# EAGLE library part CONN_12X2 (library Me433lib)
Multi connection point. Often used as Generic Header-pin footprint for 0.1 inch spaced/style header connections On any of the 0.1 inch spaced packages, you can populate with these: Break Away Headers - Straight <https://www.sparkfun.com/products/116> (PRT-00116) Break Away Male Headers - Right Angle <https://www.sparkfun.com/products/553> (PRT-00553) Female Headers <https://www.sparkfun.com/products/115> (PRT-00115) Break Away Headers - Machine Pin <https://www.sparkfun.com/products/117> (PRT-00117) Break Away Female Headers - Swiss Machine Pin <https://www.sparkfun.com/products/743> (PRT-00743)
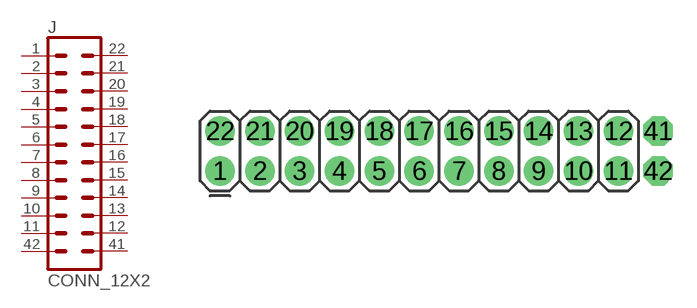
[diagram p5: symbol with the pads of 2X12; footprint 2X12]

Designator prefix J

## CONN_12X2  [2X12]
1  1  pas
2  3  pas
3  5  pas
4  7  pas
5  9  pas
6  11  pas
7  13  pas
8  15  pas
9  17  pas
10  19  pas
11  21  pas
12  22  pas
13  20  pas
14  18  pas
15  16  pas
16  14  pas
17  12  pas
18  10  pas
19  8  pas
20  6  pas
21  4  pas
22  2  pas
41  24  pas
42  23  pas

## Footprint 2X12 (pad centres in mm)
Plated Through Hole - 2x12 Specifications: Pin count:24 Pin pitch:0.1" Example device(s): CONN_12x2
drill 1.016 pad 1.88: 1 0,0; 2 2.54,0; 3 5.08,0; 4 7.62,0; 5 10.16,0; 6 12.7,0; 7 15.24,0; 8 17.78,0; 9 20.32,0; 10 22.86,0; 11 25.4,0; 12 25.4,2.54; 13 22.86,2.54; 14 20.32,2.54; 15 17.78,2.54; 16 15.24,2.54; 17 12.7,2.54; 18 10.16,2.54; 19 7.62,2.54; 20 5.08,2.54; 21 2.54,2.54; 22 0,2.54
drill 1.016 pad 1.88 octagon: 41 27.94,2.54; 42 27.94,0